# Altium schematic symbol library CY15B016Q.SchLib: 1 symbol
Pins are listed as number, name and electrical type; pins without a type are passive.

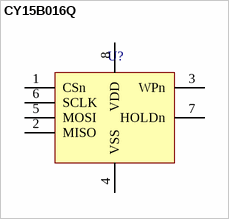
[diagram p0: symbol CY15B016Q]

## CY15B016Q
designator U?  (value not drawn)
pins: 1 CSn, 2 MISO, 3 WPn, 4 VSS, 5 MOSI, 6 SCLK, 7 HOLDn, 8 VDD